# Altium integrated library ON Semi Signal Management Audiology DSP Systems.IntLib: 14 symbols
Pins are listed as number, name and electrical type; pins without a type are passive.

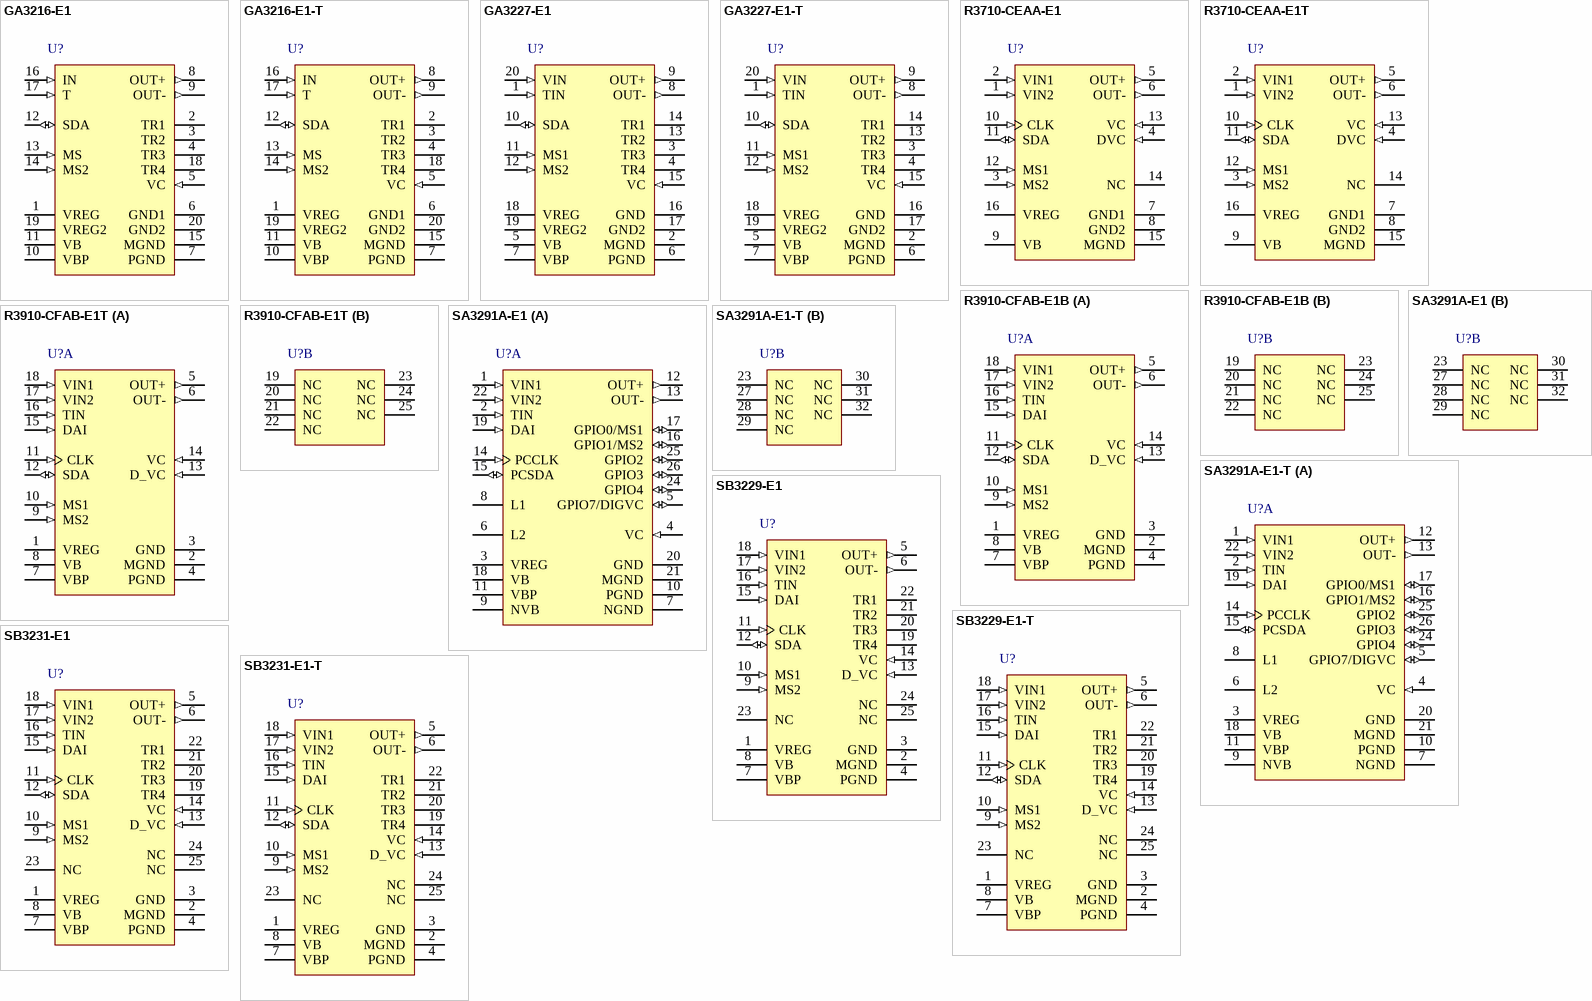
[diagram p0: symbols GA3216-E1 to SB3231-E1-T]

## GA3216-E1
designator U?
Pre-Configured DSP System for Hearing Aids, -10 to 40 degC, 20-Pin PAD-HYBRID, Pb-Free, Tray; Manufacturer: On Semiconductor; PartNumber: GA3216-E1; Advanced Algoritms: Static Feedback Management; Other Features: Trimmer Support; Program Modes: 4; DatasheetVersion: Rev. 10; PackageReference: PAD-HYBRID-20; PackageDescription: 20-Pin Hybrid Package, Body 4.82 x 3.12 mm; Packing: Tray; RoHS: TRUE; Mounting Technology: Surface Mount; ComponentLink1Description: Manufacturer URL; ComponentLink1URL: http://www.onsemi.com/; ComponentLink2Description: Datasheet; ComponentLink2URL: http://www.onsemi.com/pub/Collateral/GA3216-D.PDF; ComponentLink3Description: Package Specification; ComponentLink3URL: http://www.onsemi.com/pub_link/Collateral/GA3216-D.PDF
footprint ONSC-PAD-HYBRID-20-GA3216_V (HYBRID, 20-Leads, Body 4.82x3.12mm)
pins: 1 VREG (power), 2 TR1, 3 TR2, 4 TR3, 5 VC (in), 6 GND1 (power), 7 PGND (power), 8 OUT+ (out), 9 OUT- (out), 10 VBP (power), 11 VB (power), 12 SDA (io), 13 MS (in), 14 MS2 (in), 15 MGND (power), 16 IN (in), 17 T (in), 18 TR4, 19 VREG2 (power), 20 GND2 (power)

## GA3216-E1-T
designator U?
Pre-Configured DSP System for Hearing Aids, -10 to 40 degC, 20-Pin PAD-HYBRID, Pb-Free, Tape and Reel; Manufacturer: On Semiconductor; PartNumber: GA3216-E1-T; Advanced Algoritms: Static Feedback Management; Other Features: Trimmer Support; Program Modes: 4; DatasheetVersion: Rev. 10; PackageReference: PAD-HYBRID-20; PackageDescription: 20-Pin Hybrid Package, Body 4.82 x 3.12 mm; Packing: Tape and Reel; RoHS: TRUE; Mounting Technology: Surface Mount; ComponentLink1Description: Manufacturer URL; ComponentLink1URL: http://www.onsemi.com/; ComponentLink2Description: Datasheet; ComponentLink2URL: http://www.onsemi.com/pub/Collateral/GA3216-D.PDF; ComponentLink3Description: Package Specification; ComponentLink3URL: http://www.onsemi.com/pub_link/Collateral/GA3216-D.PDF
footprint ONSC-PAD-HYBRID-20-GA3216_V (HYBRID, 20-Leads, Body 4.82x3.12mm)
pins: 1 VREG (power), 2 TR1, 3 TR2, 4 TR3, 5 VC (in), 6 GND1 (power), 7 PGND (power), 8 OUT+ (out), 9 OUT- (out), 10 VBP (power), 11 VB (power), 12 SDA (io), 13 MS (in), 14 MS2 (in), 15 MGND (power), 16 IN (in), 17 T (in), 18 TR4, 19 VREG2 (power), 20 GND2 (power)

## GA3227-E1
designator U?
Pre-Configured DSP System for Hearing Aids, 0 to 40 degC, 20-Pin PAD-HYBRID, Pb-Free, Tray; Manufacturer: On Semiconductor; PartNumber: GA3227-E1; Advanced Algoritms: Static Feedback Management; Other Features: Trimmer Support; Program Modes: 3; DatasheetVersion: Rev. 5; PackageReference: PAD-HYBRID-20; PackageDescription: 20-Pin Hybrid Package, Body 6.35 x 3.81 mm; Packing: Tray; RoHS: TRUE; Mounting Technology: Surface Mount; ComponentLink1Description: Manufacturer URL; ComponentLink1URL: http://www.onsemi.com/; ComponentLink2Description: Datasheet; ComponentLink2URL: http://www.onsemi.com/pub_link/Collateral/GA3227-D.PDF; ComponentLink3Description: Package Specification; ComponentLink3URL: http://www.onsemi.com/pub_link/Collateral/GA3227-D.PDF
footprint ONSC-PAD-HYBRID-20_V (HYBRID, 20-Leads, Body 6.35x3.81mm)
pins: 1 TIN (in), 2 MGND (power), 3 TR3, 4 TR4, 5 VB (power), 6 PGND (power), 7 VBP (power), 8 OUT- (out), 9 OUT+ (out), 10 SDA (io), 11 MS1 (in), 12 MS2 (in), 13 TR2, 14 TR1, 15 VC (in), 16 GND (power), 17 GND2 (power), 18 VREG (power), 19 VREG2 (power), 20 VIN (in)

## GA3227-E1-T
designator U?
Pre-Configured DSP System for Hearing Aids, 0 to 40 degC, 20-Pin PAD-HYBRID, Pb-Free, Tape and Reel; Manufacturer: On Semiconductor; PartNumber: GA3227-E1-T; Advanced Algoritms: Static Feedback Management; Other Features: Trimmer Support; Program Modes: 3; DatasheetVersion: Rev. 5; PackageReference: PAD-HYBRID-20; PackageDescription: 20-Pin Hybrid Package, Body 6.35 x 3.81 mm; Packing: Tape and Reel; RoHS: TRUE; Mounting Technology: Surface Mount; ComponentLink1Description: Manufacturer URL; ComponentLink1URL: http://www.onsemi.com/; ComponentLink2Description: Datasheet; ComponentLink2URL: http://www.onsemi.com/pub_link/Collateral/GA3227-D.PDF; ComponentLink3Description: Package Specification; ComponentLink3URL: http://www.onsemi.com/pub_link/Collateral/GA3227-D.PDF
footprint ONSC-PAD-HYBRID-20_V (HYBRID, 20-Leads, Body 6.35x3.81mm)
pins: 1 TIN (in), 2 MGND (power), 3 TR3, 4 TR4, 5 VB (power), 6 PGND (power), 7 VBP (power), 8 OUT- (out), 9 OUT+ (out), 10 SDA (io), 11 MS1 (in), 12 MS2 (in), 13 TR2, 14 TR1, 15 VC (in), 16 GND (power), 17 GND2 (power), 18 VREG (power), 19 VREG2 (power), 20 VIN (in)

## R3710-CEAA-E1
designator U?
Pre-Configured DSP System, 0 to 40 degC, 16-Pin PAD-HYBRID, Pb-Free, Tray; Manufacturer: On Semiconductor; PartNumber: R3710-CEAA-E1; Acoustic Indicators: EVOKE; Advanced Algoritms: Adaptive Feedback Cancellation, Adaptive Noise Reduction, Environmental Classification, Static Feedback Management; Graphic EQ Bands: 16; Other Features: Datalogging, Digital Volume Control; Program Modes: 4; DatasheetVersion: Rev. 4; PackageReference: PAD-HYBRID-16; PackageDescription: 16-Pin Hybrid Package, Body 4.57 x 3.12 mm; Packing: Tray; RoHS: TRUE; Mounting Technology: Surface Mount; ComponentLink1Description: Manufacturer URL; ComponentLink1URL: http://www.onsemi.com/; ComponentLink2Description: Datasheet; ComponentLink2URL: http://www.onsemi.com/pub_link/Collateral/R3710-D.PDF; ComponentLink3Description: Package Specification; ComponentLink3URL: http://www.onsemi.com/pub_link/Collateral/R3710-D.PDF
footprint ONSC-PAD-HYBRID-16_V (HYBRID, 16-Leads, Body 4.57x3.12mm)
pins: 1 VIN2 (in), 2 VIN1 (in), 3 MS2 (in), 4 DVC (in), 5 OUT+ (out), 6 OUT- (out), 7 GND1 (power), 8 GND2 (power), 9 VB (power), 10 CLK (in), 11 SDA (io), 12 MS1 (in), 13 VC (in), 14 NC, 15 MGND (power), 16 VREG (power)

## R3710-CEAA-E1T
designator U?
Pre-Configured DSP System, 0 to 40 degC, 16-Pin PAD-HYBRID, Pb-Free, Tape and Reel; Manufacturer: On Semiconductor; PartNumber: R3710-CEAA-E1T; Acoustic Indicators: EVOKE; Advanced Algoritms: Adaptive Feedback Cancellation, Adaptive Noise Reduction, Environmental Classification, Static Feedback Management; Graphic EQ Bands: 16; Other Features: Datalogging, Digital Volume Control; Program Modes: 4; DatasheetVersion: Rev. 4; PackageReference: PAD-HYBRID-16; PackageDescription: 16-Pin Hybrid Package, Body 4.57 x 3.12 mm; Packing: Tape and Reel; RoHS: TRUE; Mounting Technology: Surface Mount; ComponentLink1Description: Manufacturer URL; ComponentLink1URL: http://www.onsemi.com/; ComponentLink2Description: Datasheet; ComponentLink2URL: http://www.onsemi.com/pub_link/Collateral/R3710-D.PDF; ComponentLink3Description: Package Specification; ComponentLink3URL: http://www.onsemi.com/pub_link/Collateral/R3710-D.PDF
footprint ONSC-PAD-HYBRID-16_V (HYBRID, 16-Leads, Body 4.57x3.12mm)
pins: 1 VIN2 (in), 2 VIN1 (in), 3 MS2 (in), 4 DVC (in), 5 OUT+ (out), 6 OUT- (out), 7 GND1 (power), 8 GND2 (power), 9 VB (power), 10 CLK (in), 11 SDA (io), 12 MS1 (in), 13 VC (in), 14 NC, 15 MGND (power), 16 VREG (power)

## R3910-CFAB-E1B
designator U?
Pre-Configured DSP System for Hearing Aids, 0 to 40 degC, 25-Pin PAD-HYBRID, Pb-Free, Tray; Manufacturer: On Semiconductor; PartNumber: R3910-CFAB-E1B; Acoustic Indicators: EVOKE; Advanced Algoritms: Adaptive Feedback Cancellation, Adaptive Noise Reduction, Automatic Adaptive Directionality, Environmental Classification, FrontWave Directional Microphone, Static Feedback Management; Graphic EQ Bands: 16; Other Features: Datalogging, Digital Volume Control; Program Modes: 6; DatasheetVersion: Rev. 6; PackageReference: PAD-HYBRID-25; PackageDescription: 25-Pin Hybrid Package, Body 5.59 x 3.18 mm; Packing: Tray; RoHS: TRUE; Mounting Technology: Surface Mount; ComponentLink1Description: Manufacturer URL; ComponentLink1URL: http://www.onsemi.com/; ComponentLink2Description: Datasheet; ComponentLink2URL: http://www.onsemi.com/pub_link/Collateral/R3910-D.PDF; ComponentLink3Description: Package Specification; ComponentLink3URL: http://www.onsemi.com/pub_link/Collateral/SB3229-D.PDF
footprint ONSC-PAD-HYBRID-25_V (HYBRID, 25-Leads, Body 5.59x3.18mm, Pitch 0.686mm)
part A pins: 1 VREG (power), 2 MGND (power), 3 GND (power), 4 PGND (power), 5 OUT+ (out), 6 OUT- (out), 7 VBP (power), 8 VB (power), 9 MS2 (in), 10 MS1 (in), 11 CLK (in), 12 SDA (io), 13 D_VC (in), 14 VC (in), 15 DAI (in), 16 TIN (in), 17 VIN2 (in), 18 VIN1 (in)
part B pins: 19 NC, 20 NC, 21 NC, 22 NC, 23 NC, 24 NC, 25 NC

## R3910-CFAB-E1T
designator U?
Pre-Configured DSP System for Hearing Aids, 0 to 40 degC, 25-Pin PAD-HYBRID, Pb-Free, Tape and Reel; Manufacturer: On Semiconductor; PartNumber: R3910-CFAB-E1T; Acoustic Indicators: EVOKE; Advanced Algoritms: Adaptive Feedback Cancellation, Adaptive Noise Reduction, Automatic Adaptive Directionality, Environmental Classification, FrontWave Directional Microphone, Static Feedback Management; Graphic EQ Bands: 16; Other Features: Datalogging, Digital Volume Control; Program Modes: 6; DatasheetVersion: Rev. 6; PackageReference: PAD-HYBRID-25; PackageDescription: 25-Pin Hybrid Package, Body 5.59 x 3.18 mm; Packing: Tape and Reel; RoHS: TRUE; Mounting Technology: Surface Mount; ComponentLink1Description: Manufacturer URL; ComponentLink1URL: http://www.onsemi.com/; ComponentLink2Description: Datasheet; ComponentLink2URL: http://www.onsemi.com/pub_link/Collateral/R3910-D.PDF; ComponentLink3Description: Package Specification; ComponentLink3URL: http://www.onsemi.com/pub_link/Collateral/SB3229-D.PDF
footprint ONSC-PAD-HYBRID-25_V (HYBRID, 25-Leads, Body 5.59x3.18mm, Pitch 0.686mm)
part A pins: 1 VREG (power), 2 MGND (power), 3 GND (power), 4 PGND (power), 5 OUT+ (out), 6 OUT- (out), 7 VBP (power), 8 VB (power), 9 MS2 (in), 10 MS1 (in), 11 CLK (in), 12 SDA (io), 13 D_VC (in), 14 VC (in), 15 DAI (in), 16 TIN (in), 17 VIN2 (in), 18 VIN1 (in)
part B pins: 19 NC, 20 NC, 21 NC, 22 NC, 23 NC, 24 NC, 25 NC

## SA3291A-E1
designator U?
Pre-Configured Wireless DSP System for Hearing Aids, 0 to 40 degC, 32-Pin PAD-HYBRID, Pb-Free, Tray; Manufacturer: On Semiconductor; PartNumber: SA3291A-E1; Acoustic Indicators: EVOKE; Advanced Algoritms: Adaptive Feedback Cancellation, Adaptive Noise Reduction, Automatic Adaptive Directionality, Binaural Synchronization, Binaural Telecoil, Environmental Classification, FrontWave Directional Microphone, Static Feedback Management, Stereo Audio Streaming; Graphic EQ Bands: 16; Other Features: Datalogging, Digital Volume Control; Program Modes: 6; Wireless Transceiver: NFMI; DatasheetVersion: Rev. 6; PackageReference: PAD-HYBRID-32; PackageDescription: 32-Pin Hybrid Package, Body 6.35 x 3.68 mm; Packing: Tray; RoHS: TRUE; Mounting Technology: Surface Mount; ComponentLink1Description: Manufacturer URL; ComponentLink1URL: http://www.onsemi.com/; ComponentLink2Description: Datasheet; ComponentLink2URL: http://www.onsemi.com/pub/Collateral/SA3291-D.PDF; ComponentLink3Description: Package Specification; ComponentLink3URL: http://www.onsemi.com/pub_link/Collateral/SA3291-D.PDF
footprint ONSC-PAD-HYBRID-32_V (HYBRID, 32-Leads, Body 6.35x3.68mm)
part A pins: 1 VIN1 (in), 2 TIN (in), 3 VREG (power), 4 VC (in), 5 GPIO7/DIGVC (io), 6 L2, 7 NGND (power), 8 L1, 9 NVB (power), 10 PGND (power), 11 VBP (power), 12 OUT+ (out), 13 OUT- (out), 14 PCCLK (in), 15 PCSDA (io), 16 GPIO1/MS2 (io), 17 GPIO0/MS1 (io), 18 VB (power), 19 DAI (in), 20 GND (power), 21 MGND (power), 22 VIN2 (in), 24 GPIO4 (io), 25 GPIO2 (io), 26 GPIO3 (io)
part B pins: 23 NC, 27 NC, 28 NC, 29 NC, 30 NC, 31 NC, 32 NC

## SA3291A-E1-T
designator U?
Pre-Configured Wireless DSP System for Hearing Aids, 0 to 40 degC, 32-Pin PAD-HYBRID, Pb-Free, Tape and Reel; Manufacturer: On Semiconductor; PartNumber: SA3291A-E1-T; Acoustic Indicators: EVOKE; Advanced Algoritms: Adaptive Feedback Cancellation, Adaptive Noise Reduction, Automatic Adaptive Directionality, Binaural Synchronization, Binaural Telecoil, Environmental Classification, FrontWave Directional Microphone, Static Feedback Management, Stereo Audio Streaming; Graphic EQ Bands: 16; Other Features: Datalogging, Digital Volume Control; Program Modes: 6; Wireless Transceiver: NFMI; DatasheetVersion: Rev. 6; PackageReference: PAD-HYBRID-32; PackageDescription: 32-Pin Hybrid Package, Body 6.35 x 3.68 mm; Packing: Tape and Reel; RoHS: TRUE; Mounting Technology: Surface Mount; ComponentLink1Description: Manufacturer URL; ComponentLink1URL: http://www.onsemi.com/; ComponentLink2Description: Datasheet; ComponentLink2URL: http://www.onsemi.com/pub/Collateral/SA3291-D.PDF; ComponentLink3Description: Package Specification; ComponentLink3URL: http://www.onsemi.com/pub_link/Collateral/SA3291-D.PDF
footprint ONSC-PAD-HYBRID-32_V (HYBRID, 32-Leads, Body 6.35x3.68mm)
part A pins: 1 VIN1 (in), 2 TIN (in), 3 VREG (power), 4 VC (in), 5 GPIO7/DIGVC (io), 6 L2, 7 NGND (power), 8 L1, 9 NVB (power), 10 PGND (power), 11 VBP (power), 12 OUT+ (out), 13 OUT- (out), 14 PCCLK (in), 15 PCSDA (io), 16 GPIO1/MS2 (io), 17 GPIO0/MS1 (io), 18 VB (power), 19 DAI (in), 20 GND (power), 21 MGND (power), 22 VIN2 (in), 24 GPIO4 (io), 25 GPIO2 (io), 26 GPIO3 (io)
part B pins: 23 NC, 27 NC, 28 NC, 29 NC, 30 NC, 31 NC, 32 NC

## SB3229-E1
designator U?
Pre-Configured DSP System for Hearing Aids, 0 to 40 degC, 25-Pin PAD-HYBRID, Pb-Free, Tray; Manufacturer: On Semiconductor; PartNumber: SB3229-E1; Acoustic Indicators: EVOKE; Advanced Algoritms: Adaptive Feedback Cancellation; Graphic EQ Bands: 8; Other Features: Digital Volume Control, Trimmer Support; Program Modes: 4; DatasheetVersion: Rev. 4; PackageReference: PAD-HYBRID-25; PackageDescription: 25-Pin Hybrid Package, Body 5.59 x 3.18 mm; Packing: Tray; RoHS: TRUE; Mounting Technology: Surface Mount; ComponentLink1Description: Manufacturer URL; ComponentLink1URL: http://www.onsemi.com/; ComponentLink2Description: Datasheet; ComponentLink2URL: http://www.onsemi.com/pub_link/Collateral/SB3229-D.PDF; ComponentLink3Description: Package Specification; ComponentLink3URL: http://www.onsemi.com/pub_link/Collateral/SB3229-D.PDF
footprint ONSC-PAD-HYBRID-25_V (HYBRID, 25-Leads, Body 5.59x3.18mm, Pitch 0.686mm)
pins: 1 VREG (power), 2 MGND (power), 3 GND (power), 4 PGND (power), 5 OUT+ (out), 6 OUT- (out), 7 VBP (power), 8 VB (power), 9 MS2 (in), 10 MS1 (in), 11 CLK (in), 12 SDA (io), 13 D_VC (in), 14 VC (in), 15 DAI (in), 16 TIN (in), 17 VIN2 (in), 18 VIN1 (in), 19 TR4, 20 TR3, 21 TR2, 22 TR1, 23 NC, 24 NC, 25 NC

## SB3229-E1-T
designator U?
Pre-Configured DSP System for Hearing Aids, 0 to 40 degC, 25-Pin PAD-HYBRID, Pb-Free, Tape and Reel; Manufacturer: On Semiconductor; PartNumber: SB3229-E1-T; Acoustic Indicators: EVOKE; Advanced Algoritms: Adaptive Feedback Cancellation; Graphic EQ Bands: 8; Other Features: Digital Volume Control, Trimmer Support; Program Modes: 4; DatasheetVersion: Rev. 4; PackageReference: PAD-HYBRID-25; PackageDescription: 25-Pin Hybrid Package, Body 5.59 x 3.18 mm; Packing: Tape and Reel; RoHS: TRUE; Mounting Technology: Surface Mount; ComponentLink1Description: Manufacturer URL; ComponentLink1URL: http://www.onsemi.com/; ComponentLink2Description: Datasheet; ComponentLink2URL: http://www.onsemi.com/pub_link/Collateral/SB3229-D.PDF; ComponentLink3Description: Package Specification; ComponentLink3URL: http://www.onsemi.com/pub_link/Collateral/SB3229-D.PDF
footprint ONSC-PAD-HYBRID-25_V (HYBRID, 25-Leads, Body 5.59x3.18mm, Pitch 0.686mm)
pins: 1 VREG (power), 2 MGND (power), 3 GND (power), 4 PGND (power), 5 OUT+ (out), 6 OUT- (out), 7 VBP (power), 8 VB (power), 9 MS2 (in), 10 MS1 (in), 11 CLK (in), 12 SDA (io), 13 D_VC (in), 14 VC (in), 15 DAI (in), 16 TIN (in), 17 VIN2 (in), 18 VIN1 (in), 19 TR4, 20 TR3, 21 TR2, 22 TR1, 23 NC, 24 NC, 25 NC

## SB3231-E1
designator U?
Pre-Configured DSP System for Hearing Aids, 0 to 40 degC, 25-Pin PAD-HYBRID, Pb-Free, Tray; Manufacturer: On Semiconductor; PartNumber: SB3231-E1; Acoustic Indicators: EVOKE; Advanced Algoritms: Adaptive Feedback Cancellation, Adaptive Noise Reduction, FrontWave Directional Microphone; Graphic EQ Bands: 8; Other Features: Trimmer Support; Program Modes: 4; DatasheetVersion: Rev. 3; PackageReference: PAD-HYBRID-25; PackageDescription: 25-Pin Hybrid Package, Body 5.59 x 3.18 mm; Packing: Tray; RoHS: TRUE; Mounting Technology: Surface Mount; ComponentLink1Description: Manufacturer URL; ComponentLink1URL: http://www.onsemi.com/; ComponentLink2Description: Datasheet; ComponentLink2URL: http://www.onsemi.com/pub_link/Collateral/SB3231-D.PDF; ComponentLink3Description: Package Specification; ComponentLink3URL: http://www.onsemi.com/pub_link/Collateral/SB3229-D.PDF
footprint ONSC-PAD-HYBRID-25_V (HYBRID, 25-Leads, Body 5.59x3.18mm, Pitch 0.686mm)
pins: 1 VREG (power), 2 MGND (power), 3 GND (power), 4 PGND (power), 5 OUT+ (out), 6 OUT- (out), 7 VBP (power), 8 VB (power), 9 MS2 (in), 10 MS1 (in), 11 CLK (in), 12 SDA (io), 13 D_VC (in), 14 VC (in), 15 DAI (in), 16 TIN (in), 17 VIN2 (in), 18 VIN1 (in), 19 TR4, 20 TR3, 21 TR2, 22 TR1, 23 NC, 24 NC, 25 NC

## SB3231-E1-T
designator U?
Pre-Configured DSP System for Hearing Aids, 0 to 40 degC, 25-Pin PAD-HYBRID, Pb-Free, Tape and Reel; Manufacturer: On Semiconductor; PartNumber: SB3231-E1-T; Acoustic Indicators: EVOKE; Advanced Algoritms: Adaptive Feedback Cancellation, Adaptive Noise Reduction, FrontWave Directional Microphone; Graphic EQ Bands: 8; Other Features: Trimmer Support; Program Modes: 4; DatasheetVersion: Rev. 3; PackageReference: PAD-HYBRID-25; PackageDescription: 25-Pin Hybrid Package, Body 5.59 x 3.18 mm; Packing: Tape and Reel; RoHS: TRUE; Mounting Technology: Surface Mount; ComponentLink1Description: Manufacturer URL; ComponentLink1URL: http://www.onsemi.com/; ComponentLink2Description: Datasheet; ComponentLink2URL: http://www.onsemi.com/pub_link/Collateral/SB3231-D.PDF; ComponentLink3Description: Package Specification; ComponentLink3URL: http://www.onsemi.com/pub_link/Collateral/SB3229-D.PDF
footprint ONSC-PAD-HYBRID-25_V (HYBRID, 25-Leads, Body 5.59x3.18mm, Pitch 0.686mm)
pins: 1 VREG (power), 2 MGND (power), 3 GND (power), 4 PGND (power), 5 OUT+ (out), 6 OUT- (out), 7 VBP (power), 8 VB (power), 9 MS2 (in), 10 MS1 (in), 11 CLK (in), 12 SDA (io), 13 D_VC (in), 14 VC (in), 15 DAI (in), 16 TIN (in), 17 VIN2 (in), 18 VIN1 (in), 19 TR4, 20 TR3, 21 TR2, 22 TR1, 23 NC, 24 NC, 25 NC